# Altium footprint library PcbLib1.PcbLib: 8 footprints
Each footprint in its own frame and in the unit in brackets; x right, y up, seen from the top. Pads: shape width x height; smd on the part's side, far side on the other; paste and mask are expansions set on the pad; w line width, h text height; cw(c..) or ccw(c..) is an arc to the next point about the centre after c.
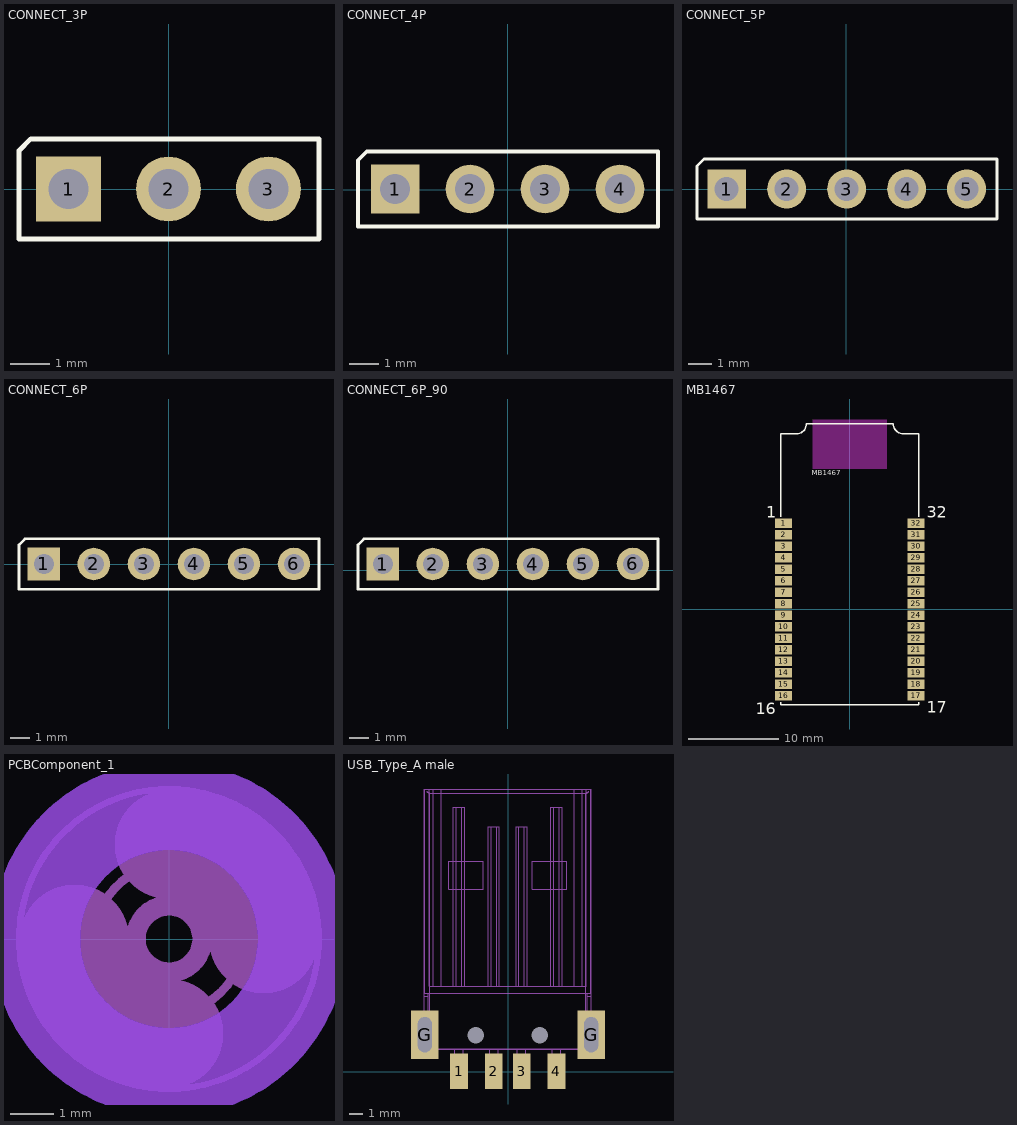
[diagram p0: the footprints below, top view; thin cyan lines are the x and y axes]

## CONNECT_3P [mil]
pads (3):
  rect 65x65 hole 40 square: 1(-100,0)
  round 65 hole 40: 2(0,0) 3(100,0)
Top Overlay:
  lines w5: -149.61,-50.2 -149.61,38.39 -137.8,50.2 150.59,50.2 150.59,-50.2 -149.61,-50.2
3D body "WR-PHD 2.54mm Pin Header THT Straight 3p.stp": height 338.19, standoff -116.14, extent -149.99,-50 150.01,50

## CONNECT_4P [mil]
pads (4):
  rect 65x65 hole 40 square: 1(-150.39,0.79)
  round 65 hole 40: 2(-50.39,0.79) 3(49.61,0.79) 4(149.61,0.79)
Top Overlay:
  lines w5: -200,-49.41 200.39,-49.41 200.39,50.98 -188.19,50.98 -200,39.17 -200,-49.41
3D body "WR-PHD 2.54mm Pin Header THT Straight 4p.stp": height 338.19, standoff -116.14, extent -199.99,-49.99 200.01,50.01

## CONNECT_5P [mil]
pads (5):
  rect 65x65 hole 40 square: 1(-199.61,0.39)
  round 65 hole 40: 2(-99.61,0.39) 3(0.39,0.39) 4(100.39,0.39) 5(200.39,0.39)
Top Overlay:
  lines w5: -249.21,-49.8 -249.21,38.78 -237.4,50.59 251.18,50.59 251.18,-49.8 -249.21,-49.8
3D body "WR-PHD 2.54mm Pin Header THT Straight 5p.stp": height 338.19, standoff -116.14, extent -249.21,-49.8 250.79,50.2
3D body: height 10, standoff 0, extent 0.39,0.39 0.39,0.39

## CONNECT_6P [mil]
pads (6):
  rect 65x65 hole 40 square: 1(-250,0.59)
  round 65 hole 40: 2(-150,0.59) 3(-50,0.59) 4(50,0.59) 5(150,0.59) 6(250,0.79)
Top Overlay:
  lines w5: -299.61,-49.61 -299.61,38.98 -287.8,50.79 300,50.79 300,-49.61 -299.61,-49.61
3D body "WR-PHD 2.54mm Pin Header THT Straight 6p.stp": height 286.22, standoff -168.11, extent -300,-50 300,50
3D body: height 10, standoff 0, extent -50,0.59 -50,0.59

## CONNECT_6P_90 [mil]
pads (6):
  rect 65x65 hole 40 square: 1(-249.21,12.4)
  round 65 hole 40: 2(-149.21,12.4) 3(-49.21,12.4) 4(50.79,12.4) 5(150.79,12.4) 6(250.79,12.6)
Top Overlay:
  lines w5: -298.82,-37.8 300.79,-37.8 300.79,62.6 -287.01,62.6 -298.82,50.79 -298.82,-37.8
3D body "User Library-Header_Male_RA_Low_6Pin.STEP": height 99.02, standoff -118.11, extent -300,0 300,398.82
3D body: height 10, standoff 0, extent -49.21,12.4 -49.21,12.4

## MB1467 [mil] "ST-LINK-v3-mini"
pads (32):
  rect 74.8x42.13 smd: 1(-288.19,375) 2(-288.19,325) 3(-288.19,275) 4(-288.19,225) 5(-288.19,175) 6(-288.19,125) 7(-288.19,75) 8(-288.19,25) 9(-288.19,-25) 10(-288.19,-75) 11(-288.19,-125) 12(-288.19,-175) 13(-288.19,-225) 14(-288.19,-275) 15(-288.19,-325) 16(-288.19,-375) 17(288.19,-375) 18(288.19,-325) 19(288.19,-275) 20(288.19,-225) 21(288.19,-175) 22(288.19,-125) 23(288.19,-75) 24(288.19,-25) 25(288.19,25) 26(288.19,75) 27(288.19,125) 28(288.19,175) 29(288.19,225) 30(288.19,275) 31(288.19,325) 32(288.19,375)
Top Layer keep-out:
  region: -161.43,613.42 -161.43,826.02 161.41,826.02 161.41,613.42
Top Overlay:
  lines w6: -300,-403 -300,-415 300,-415 300,-403 ; -300,403 -300,765 -232,765 ccw(c-232,808) -189,808 189,808 ccw(c232,808) 232,765 300,765 300,403
  text "17" at 335,-450 h50.15
  text "16" at -410,-455 h50.15
  text "1" at -365,400 h50.15
  text "32" at 335,400 h50.15
  text "MB1467" at -165,575 h39.37

## PCBComponent_1 [mil]
Top Layer keep-out:
  circle w80: c0,0 r120
  circle w80: c0,0 r120
  circle w80: c0,0 r120
Bottom Layer keep-out:
  circle w80: c0,0 r120
  circle w80: c0,0 r120
Mechanical 3:
  circle w18: c0,0 r30
  lines w98: -85,0 ccw(c0,0) 0,-85 ; 0,85 cw(c0,0) 85,0
Mechanical 7:
  circle w6: c0,0 r135
  circle w8: c0,0 r66.93

## USB_Type_A male [mm]
pads (8):
  rect 1.27x2.54 smd: 1(-3.54,0.019) 2(-1.04,0.019) 3(0.96,0.019) 4(3.46,0.019)
  rect 2x3.5 hole 2.54 slot 1 at 0 deg: G(-6.004,2.651) G(5.958,2.651)
  round 1 hole 1.2: ""(-2.34,2.619) ""(2.26,2.619)
Mechanical 2:
  drawing of 295 lines, arcs and shapes, not listed
Mechanical 3:
  drawing of 806 lines, arcs and shapes, not listed
3D body "USB type A male SMT.stp": height 3.15, standoff -2.65, extent -6.35,0 6.256,20.3